# EAGLE library part PINHD-3X13 (library 25pinhead)
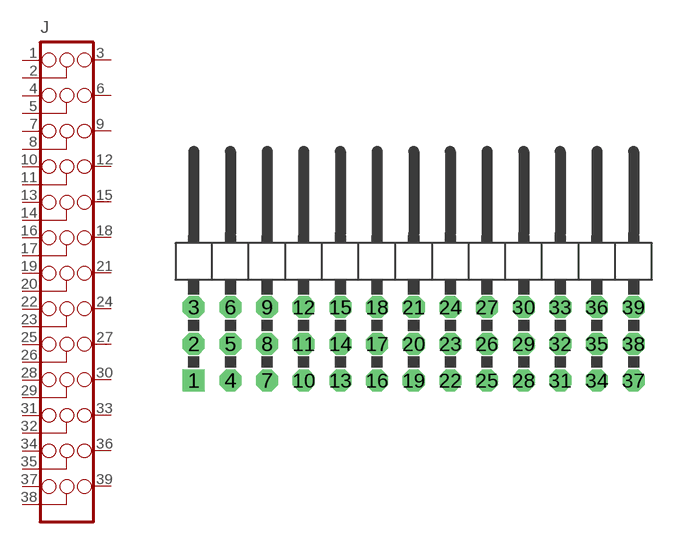
[diagram p45: symbol with the pads of 3X13/90; footprint 3X13/90]

Designator prefix J

## PINHD-3X13/90  [3X13/90]
1  1  pas
2  2  pas
3  3  pas
4  4  pas
5  5  pas
6  6  pas
7  7  pas
8  8  pas
9  9  pas
10  10  pas
11  11  pas
12  12  pas
13  13  pas
14  14  pas
15  15  pas
16  16  pas
17  17  pas
18  18  pas
19  19  pas
20  20  pas
21  21  pas
22  22  pas
23  23  pas
24  24  pas
25  25  pas
26  26  pas
27  27  pas
28  28  pas
29  29  pas
30  30  pas
31  31  pas
32  32  pas
33  33  pas
34  34  pas
35  35  pas
36  36  pas
37  37  pas
38  38  pas
39  39  pas

## Footprint 3X13/90 (pad centres in mm)
drill 1.016 square: 1 -15.24,-8.89
drill 1.016 octagon: 2 -15.24,-6.35; 3 -15.24,-3.81; 4 -12.7,-8.89; 5 -12.7,-6.35; 6 -12.7,-3.81; 7 -10.16,-8.89; 8 -10.16,-6.35; 9 -10.16,-3.81; 10 -7.62,-8.89; 11 -7.62,-6.35; 12 -7.62,-3.81; 13 -5.08,-8.89; 14 -5.08,-6.35; 15 -5.08,-3.81; 16 -2.54,-8.89; 17 -2.54,-6.35; 18 -2.54,-3.81; 19 0,-8.89; 20 0,-6.35; 21 0,-3.81; 22 2.54,-8.89; 23 2.54,-6.35; 24 2.54,-3.81; 25 5.08,-8.89; 26 5.08,-6.35; 27 5.08,-3.81; 28 7.62,-8.89; 29 7.62,-6.35; 30 7.62,-3.81; 31 10.16,-8.89; 32 10.16,-6.35; 33 10.16,-3.81; 34 12.7,-8.89; 35 12.7,-6.35; 36 12.7,-3.81; 37 15.24,-8.89; 38 15.24,-6.35; 39 15.24,-3.81